# Altium schematic symbol library B39242B8328P810.SchLib: 2 symbols
Pins are listed as number, name and electrical type; pins without a type are passive.

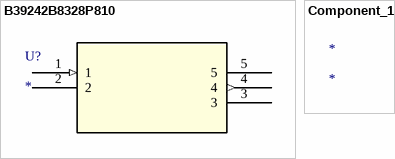
[diagram p0: symbols B39242B8328P810 to Component_1]

## B39242B8328P810
designator U?
No Description Available; Mfr_Name: Qualcomm; RefDes: RefDes; Type: Type
footprint CHIP_SMT1P4X1P1_QUA
pins: 1 (in), 2 (power), 3 (power), 4 (out), 5 (power)

## Component_1
designator *